# Altium schematic symbol library RES0603.SchLib: 1 symbol
Pins are listed as number, name and electrical type; pins without a type are passive.

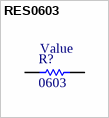
[diagram p0: symbol RES0603]

## RES0603
designator R?, comment 0603
0603 resistor; Value: Value
footprint RES0603R (resistor 0603 reflow soldering)
simulation model RESISTOR (Resistor)
signal-integrity model Res
pins: 1, 2